# Altium footprint library Sensor Brushless Driver V1.01.PcbLib: 18 footprints (part 1 of 2)
Each footprint in its own frame and in the unit in brackets; x right, y up, seen from the top. Pads: shape width x height; smd on the part's side, far side on the other; paste and mask are expansions set on the pad; w line width, h text height; cw(c..) or ccw(c..) is an arc to the next point about the centre after c.
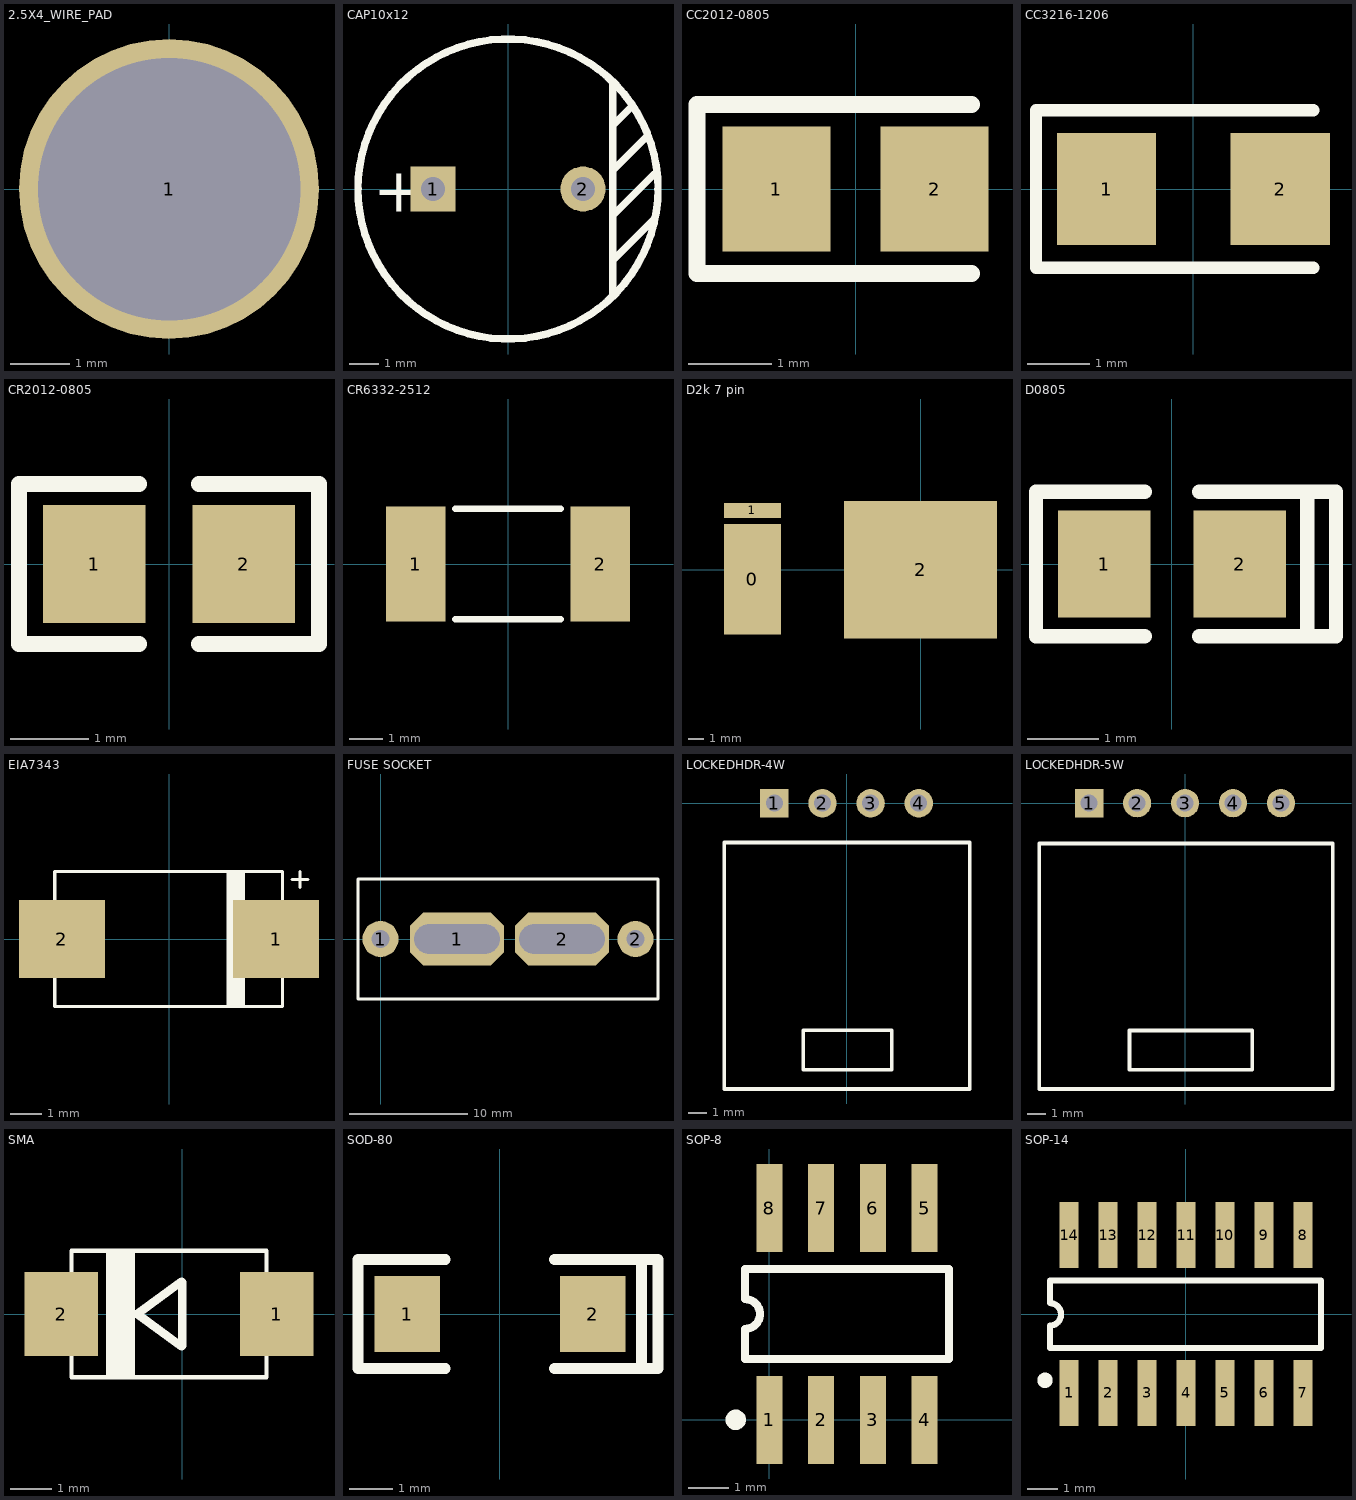
[diagram p0: the footprints below, top view; thin cyan lines are the x and y axes]

## 2.5X4_WIRE_PAD [mil]
pads (1):
  round 200 hole 175: 1(0,0)

## CAP10x12 [mil]
pads (2):
  rect 60x60 hole 31.5: 1(-100,0)
  round 60 hole 31.5: 2(100,0)
Top Overlay:
  circle w10: c0,0 r200
  lines w10: 140,-140 140,140 ; 140,-95 195,-40 ; 140,-35 195,20 ; 140,25 185,70 ; 140,85 165,110
  text "+" at -180,-30 h60
3D body: height 472.44, standoff -98.43, extent -197.85,-198 195.85,195.7

## CC2012-0805 [mm] "Chip Capacitor; Body 2.0 x 1.2 mm (LxW typ)"
height 1.1
pads (2):
  rect 1.3x1.5 smd: 1(-0.95,0) 2(0.95,0)
Top Overlay:
  lines w0.203: 1.397,-1.016 -1.905,-1.016 -1.905,1.016 1.397,1.016
3D body: height 0.58, standoff -0.02, extent -0.991,-0.635 1.009,0.615

## CC3216-1206 [mm] "Chip Capacitor; Body 3.2 x 1.6 mm (LxW typ)"
height 1.35
pads (2):
  rect 1.6x1.8 smd: 1(-1.4,0) 2(1.4,0)
Top Overlay:
  lines w0.2: 1.93,-1.27 -2.54,-1.27 -2.54,1.27 1.93,1.27
3D body: height 0.76, standoff -0.02, extent -1.6,-0.787 1.6,0.813

## CR2012-0805 [mm] "Chip Resistor; Body 2.0 x 1.3 mm (LxW typ)"
height 0.65
pads (2):
  rect 1.3x1.5 smd: 1(-0.95,0) 2(0.95,0)
Top Overlay:
  lines w0.203: -0.381,-1.016 -1.905,-1.016 -1.905,1.016 -0.381,1.016 ; 0.381,-1.016 1.905,-1.016 1.905,1.016 0.381,1.016
3D body: height 0.58, standoff -0.02, extent -0.984,-0.625 1.016,0.625

## CR6332-2512 [mm] "Chip Resistor; Body 6.3 x 3.2 mm (LxW typ)"
height 0.6
pads (2):
  rect 1.8x3.5 smd: 1(-2.8,0) 2(2.8,0)
Top Overlay:
  lines w0.2: -1.6,-1.676 1.6,-1.676 ; -1.6,1.678 1.6,1.678
3D body: height 0.58, standoff -0.02, extent -3.2,-1.6 3.2,1.6

## D2k 7 pin [mil]
pads (3):
  rect 150x290 smd: 0(-440,-25)
  rect 150x40 smd: 1(-440,155)
  rect 400x360 smd: 2(0,0)
3D body: height 175.48, standoff 0.48, extent -490.8,-193.72 109.39,203.72

## D0805 [mm]
pads (2):
  rect 1.3x1.5 smd: 1(-0.95,0) 2(0.95,0)
Top Overlay:
  lines w0.203: -0.381,-1.016 -1.905,-1.016 -1.905,1.016 -0.381,1.016 ; 0.381,-1.016 2.3,-1.016 2.3,1.016 0.381,1.016 ; 1.9,-1.016 1.9,1.016
3D body: height 0.48, standoff 0.16, extent -0.625,-0.492 0.625,0.508
3D body: height 0.41, standoff 0.04, extent -0.984,-0.492 1.016,0.508

## EIA7343 [mm]
pads (2):
  rect 2.75x2.5 smd: 1(3.429,0) 2(-3.429,0)
Top Overlay:
  rectangle: 1.839,-2.21 2.439,2.21
  region: -3.616,1.194 -4.216,1.194 -4.216,-1.194 -3.616,-1.194
  rectangle: 3.592,-1.194 4.192,1.194
  lines w0.102: 3.937,1.905 4.445,1.905 ; 4.191,1.651 4.191,2.159 ; -3.658,-2.159 -3.658,2.159 3.632,2.159 3.632,-2.159 -3.658,-2.159
3D body: height 2.8, standoff 0, extent -3.65,-2.15 3.65,2.15

## FUSE SOCKET [mil]
pads (4):
  round 120 hole 60: 1(0,0) 2(850,0)
  oct 314.96x177.17 hole 98.43 slot 285.43 at 0 deg: 1(255,0) 2(605,0)
Top Overlay:
  lines w10: -75,-200 -75,200 925,200 925,-200 -75,-200
3D body: height 214.5, standoff -137.37, extent 468.67,-65.8 739.33,56
3D body: height 214.5, standoff -137.37, extent 119.67,-65.8 390.33,56
3D body: height 664.16, standoff -7.1, extent 135.41,29 724.59,42.78
3D body: height 663.19, standoff 239.96, extent 136.41,-49 725.59,128.17

## LOCKEDHDR-4W [mm] "5-pin header with lock"
pads (4):
  rect 1.5x1.5 hole 0.9: 1(-3.81,0)
  round 1.5 hole 0.9: 2(-1.27,0) 3(1.27,0) 4(3.81,0)
Top Overlay:
  lines w0.203: -6.452,-15.088 6.502,-15.088 6.502,-2.083 -6.452,-2.083 -6.452,-15.088 ; -2.286,-14.072 2.388,-14.072 2.388,-11.989 -2.286,-11.989 -2.286,-14.072

## LOCKEDHDR-5W [mm] "5-pin header with lock"
pads (5):
  rect 1.5x1.5 hole 0.9: 1(-5.08,0)
  round 1.5 hole 0.9: 2(-2.54,0) 3(0,0) 4(2.54,0) 5(5.08,0)
Top Overlay:
  lines w0.203: -7.722,-15.138 7.823,-15.138 7.823,-2.134 -7.722,-2.134 -7.722,-15.138 ; -2.946,-14.122 3.556,-14.122 3.556,-12.04 -2.946,-12.04 -2.946,-14.122

## SMA [mil]
pads (2):
  rect 70x80 smd: 1(90,0) 2(-115,0)
Top Overlay:
  rectangle: -72.46,-60 -44.96,60
  rectangle: 80.04,-37.5 101.04,37.5
  rectangle: -125.96,-37.5 -104.96,37.5
  lines w4: -105,-60 -105,60 80,60 80,-60 -105,-60
  lines w8: -0.52,-30.71 -42.68,0 -0.52,30.71 ; 0,-30 0,30

## SOD-80 [mil]
pads (2):
  rect 60x70 smd: 1(-85,0) 2(85,0)
Top Overlay:
  lines w10: -50,-50 -130,-50 -130,50 -50,50 ; 50,-50 145,-50 145,50 50,50 ; 130,-50 130,50
3D body: height 59.53, standoff 0.47, extent -68.72,-29.06 69.07,30

## SOP-8 [mil]
pads (8):
  rect 25x85 smd: 1(0,0) 2(50,0) 3(100,0) 4(150,0) 5(150,204.72) 6(100,204.72) 7(50,204.72) 8(0,204.72)
Top Overlay:
  circle w9.84: c-32.48,0.2 r4.92
  lines w7.87: -23.43,87.93 ccw(c-23.43,102.36) -23.43,116.8 -23.43,145.67 173.43,145.67 173.43,59.05 -23.43,59.05 -23.43,87.93
3D body: height 66.93, standoff 0, extent -21.66,-13.11 171.25,223.11

## SOP-14 [mil]
pads (14):
  rect 24.5x85 smd: 1(-149.83,-100.89) 2(-99.83,-100.89) 3(-49.83,-100.89) 4(0.17,-100.89) 5(50.17,-100.89) 6(100.17,-100.89) 7(150.17,-100.89) 8(150.17,101.75) 9(100.17,101.75) 10(50.17,101.75) 11(0.17,101.75) 12(-49.83,101.75) 13(-99.83,101.75) 14(-149.83,101.75)
Top Overlay:
  circle w9.84: c-180.71,-84.63 r4.92
  lines w7.87: -174.57,-15 -174.57,-43.31 173.23,-43.31 173.23,43.31 -174.57,43.31 -174.57,15 ; -174.57,-14.44 ccw(c-174.57,0) -174.57,14.44
3D body: height 60.83, standoff -1.78, extent -170,-122.96 168.67,122.97